# Altium schematic symbol library alex_ADC_DAC.SchLib: 4 symbols
Pins are listed as number, name and electrical type; pins without a type are passive.

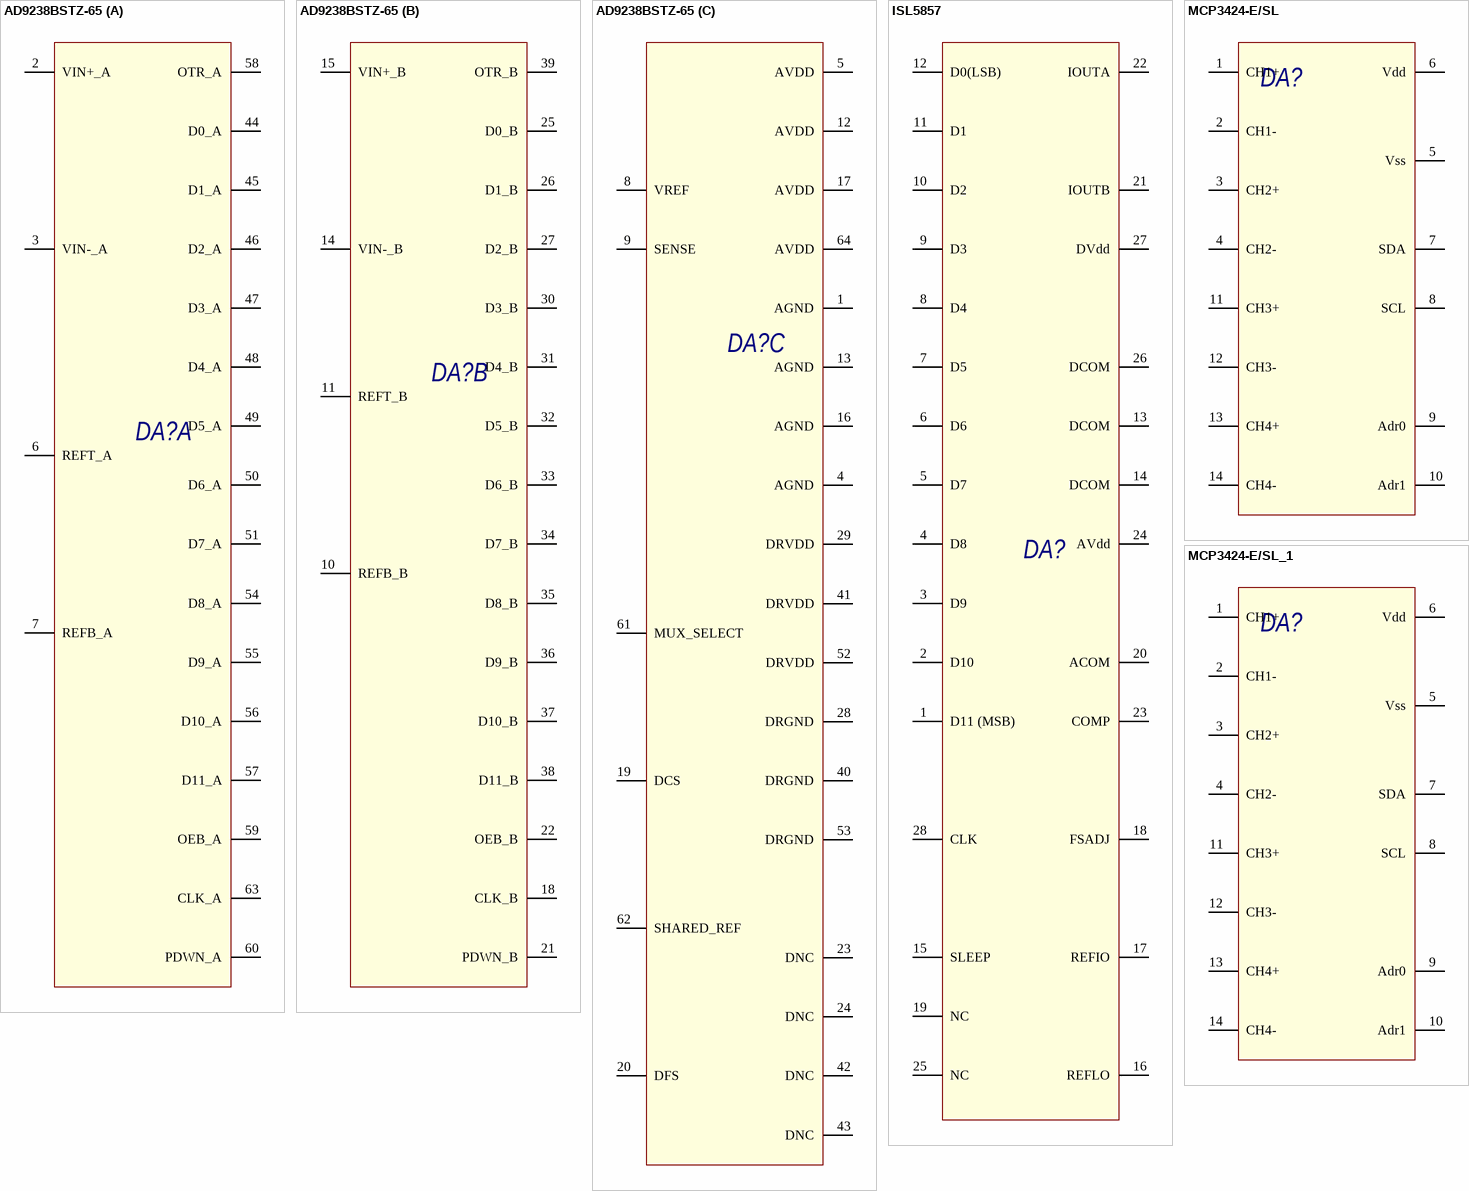
[diagram p0: symbols AD9238BSTZ-65 to MCP3424-E/SL_1]

## AD9238BSTZ-65
designator DA?, comment АЦП 2-канальный 12бит AD9238BSTZ-65 65 Мвыборок/с 2.7В-3.3В LQFP-64 -40...+85°C "Analog Devices"  (value not drawn)
footprint LQFP-64
part A pins: 2 VIN+_A, 3 VIN-_A, 6 REFT_A, 7 REFB_A, 44 D0_A, 45 D1_A, 46 D2_A, 47 D3_A, 48 D4_A, 49 D5_A, 50 D6_A, 51 D7_A, 54 D8_A, 55 D9_A, 56 D10_A, 57 D11_A, 58 OTR_A, 59 OEB_A, 60 PDWN_A, 63 CLK_A
part B pins: 10 REFB_B, 11 REFT_B, 14 VIN-_B, 15 VIN+_B, 18 CLK_B, 21 PDWN_B, 22 OEB_B, 25 D0_B, 26 D1_B, 27 D2_B, 30 D3_B, 31 D4_B, 32 D5_B, 33 D6_B, 34 D7_B, 35 D8_B, 36 D9_B, 37 D10_B, 38 D11_B, 39 OTR_B
part C pins: 1 AGND, 4 AGND, 5 AVDD, 8 VREF, 9 SENSE, 12 AVDD, 13 AGND, 16 AGND, 17 AVDD, 19 DCS, 20 DFS, 23 DNC, 24 DNC, 28 DRGND, 29 DRVDD, 40 DRGND, 41 DRVDD, 42 DNC, 43 DNC, 52 DRVDD, 53 DRGND, 61 MUX_SELECT, 62 SHARED_REF, 64 AVDD

## ISL5857
designator DA?, comment ЦАП 1-канальный 12бит +3,3В 260MSPS выход токовый до 20мА ISL5857 SOIC-28 -40...+85°C "Renesas"  (value not drawn)
footprint SOIC-28
pins: 1 D11 (MSB), 2 D10, 3 D9, 4 D8, 5 D7, 6 D6, 7 D5, 8 D4, 9 D3, 10 D2, 11 D1, 12 D0(LSB), 13 DCOM, 14 DCOM, 15 SLEEP, 16 REFLO, 17 REFIO, 18 FSADJ, 19 NC, 20 ACOM, 21 IOUTB, 22 IOUTA, 23 COMP, 24 AVdd, 25 NC, 26 DCOM, 27 DVdd, 28 CLK

## MCP3424-E/SL
designator DA?, comment АЦП 4-канальный i2c 18бит MCP3424-E/SL  2.7-5.5В SO-14 -40...+85°C "Microchip"  (value not drawn)
footprint SOIC-14 (Small Outline; 14 Leads; Body Width 3.9 mm; Pitch 1.27 mm)
pins: 1 CH1+, 2 CH1-, 3 CH2+, 4 CH2-, 5 Vss, 6 Vdd, 7 SDA, 8 SCL, 9 Adr0, 10 Adr1, 11 CH3+, 12 CH3-, 13 CH4+, 14 CH4-

## MCP3424-E/SL_1
designator DA?, comment АЦП 4-канальный i2c 18бит MCP3424-E/SL  2.7-5.5В SO-14 -40...+85°C "Microchip"  (value not drawn)
footprint SOIC-14 (Small Outline; 14 Leads; Body Width 3.9 mm; Pitch 1.27 mm)
pins: 1 CH1+, 2 CH1-, 3 CH2+, 4 CH2-, 5 Vss, 6 Vdd, 7 SDA, 8 SCL, 9 Adr0, 10 Adr1, 11 CH3+, 12 CH3-, 13 CH4+, 14 CH4-